# Altium schematic symbol library Ethernet_Switch_Controllers.SchLib: 1 symbol
Pins are listed as number, name and electrical type; pins without a type are passive.

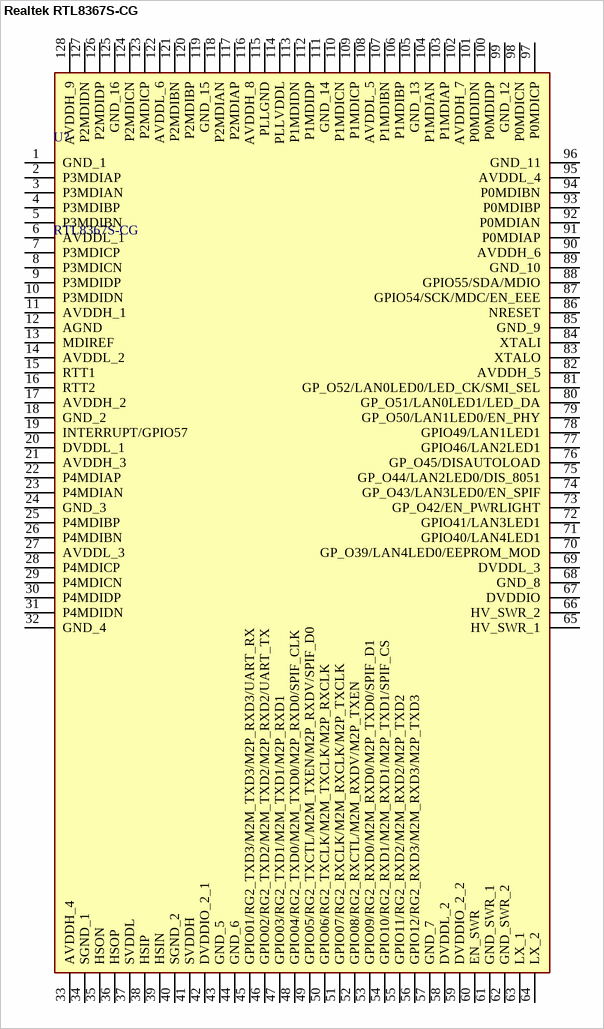
[diagram p0: symbol Realtek RTL8367S-CG]

## Realtek RTL8367S-CG
designator U?, comment RTL8367S-CG
Integrated Circuits (ICs) QFP; Manufacturer_Name: Realtek; Geometry.Height: 1.6mm; Manufacturer_Part_Number: RTL8367S-CG; Mouser Part Number: *; Mouser Price/Stock: *; Arrow Part Number: *; Arrow Price/Stock: *; Datasheet Link: https://datasheet.lcsc.com/lcsc/2103121437_Realtek-Semicon-RTL8367S-CG_C2760849.pdf
footprint Realtek LQFP-128 (14x14)
pins: 1 GND_1, 2 P3MDIAP, 3 P3MDIAN, 4 P3MDIBP, 5 P3MDIBN, 6 AVDDL_1, 7 P3MDICP, 8 P3MDICN, 9 P3MDIDP, 10 P3MDIDN, 11 AVDDH_1, 12 AGND, 13 MDIREF, 14 AVDDL_2, 15 RTT1, 16 RTT2, 17 AVDDH_2, 18 GND_2, 19 INTERRUPT/GPIO57, 20 DVDDL_1, 21 AVDDH_3, 22 P4MDIAP, 23 P4MDIAN, 24 GND_3, 25 P4MDIBP, 26 P4MDIBN, 27 AVDDL_3, 28 P4MDICP, 29 P4MDICN, 30 P4MDIDP, 31 P4MDIDN, 32 GND_4, 33 AVDDH_4, 34 SGND_1, 35 HSON, 36 HSOP, 37 SVDDL, 38 HSIP, 39 HSIN, 40 SGND_2, 41 SVDDH, 42 DVDDIO_2_1, 43 GND_5, 44 GND_6, 45 GPIO01/RG2_TXD3/M2M_TXD3/M2P_RXD3/UART_RX, 46 GPIO02/RG2_TXD2/M2M_TXD2/M2P_RXD2/UART_TX, 47 GPIO03/RG2_TXD1/M2M_TXD1/M2P_RXD1, 48 GPIO04/RG2_TXD0/M2M_TXD0/M2P_RXD0/SPIF_CLK, 49 GPIO05/RG2_TXCTL/M2M_TXEN/M2P_RXDV/SPIF_D0, 50 GPIO06/RG2_TXCLK/M2M_TXCLK/M2P_RXCLK, 51 GPIO07/RG2_RXCLK/M2M_RXCLK/M2P_TXCLK, 52 GPIO08/RG2_RXCTL/M2M_RXDV/M2P_TXEN, 53 GPIO09/RG2_RXD0/M2M_RXD0/M2P_TXD0/SPIF_D1, 54 GPIO10/RG2_RXD1/M2M_RXD1/M2P_TXD1/SPIF_CS, 55 GPIO11/RG2_RXD2/M2M_RXD2/M2P_TXD2, 56 GPIO12/RG2_RXD3/M2M_RXD3/M2P_TXD3, 57 GND_7, 58 DVDDL_2, 59 DVDDIO_2_2, 60 EN_SWR, 61 GND_SWR_1, 62 GND_SWR_2, 63 LX_1, 64 LX_2, 65 HV_SWR_1, 66 HV_SWR_2, 67 DVDDIO, 68 GND_8, 69 DVDDL_3, 70 GP_O39/LAN4LED0/EEPROM_MOD, 71 GPIO40/LAN4LED1, 72 GPIO41/LAN3LED1, 73 GP_O42/EN_PWRLIGHT, 74 GP_O43/LAN3LED0/EN_SPIF, 75 GP_O44/LAN2LED0/DIS_8051, 76 GP_O45/DISAUTOLOAD, 77 GPIO46/LAN2LED1, 78 GPIO49/LAN1LED1, 79 GP_O50/LAN1LED0/EN_PHY, 80 GP_O51/LAN0LED1/LED_DA, 81 GP_O52/LAN0LED0/LED_CK/SMI_SEL, 82 AVDDH_5, 83 XTALO, 84 XTALI, 85 GND_9, 86 NRESET, 87 GPIO54/SCK/MDC/EN_EEE, 88 GPIO55/SDA/MDIO, 89 GND_10, 90 AVDDH_6, 91 P0MDIAP, 92 P0MDIAN, 93 P0MDIBP, 94 P0MDIBN, 95 AVDDL_4, 96 GND_11, 97 P0MDICP, 98 P0MDICN, 99 GND_12, 100 P0MDIDP, 101 P0MDIDN, 102 AVDDH_7, 103 P1MDIAP, 104 P1MDIAN, 105 GND_13, 106 P1MDIBP, 107 P1MDIBN, 108 AVDDL_5, 109 P1MDICP, 110 P1MDICN, 111 GND_14, 112 P1MDIDP, 113 P1MDIDN, 114 PLLVDDL, 115 PLLGND, 116 AVDDH_8, 117 P2MDIAP, 118 P2MDIAN, 119 GND_15, 120 P2MDIBP, 121 P2MDIBN, 122 AVDDL_6, 123 P2MDICP, 124 P2MDICN, 125 GND_16, 126 P2MDIDP, 127 P2MDIDN, 128 AVDDH_9